# Altium schematic symbol library TPS1HB16.SchLib: 1 symbol
Pins are listed as number, name and electrical type; pins without a type are passive.

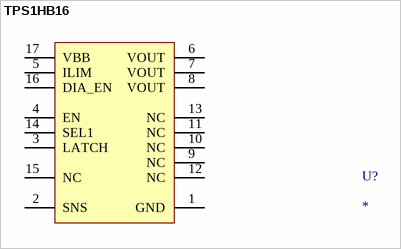
[diagram p0: symbol TPS1HB16]

## TPS1HB16
designator U?
pins: 1 GND, 2 SNS, 3 LATCH, 4 EN, 5 ILIM, 6 VOUT, 7 VOUT, 8 VOUT, 9 NC, 10 NC, 11 NC, 12 NC, 13 NC, 14 SEL1, 15 NC, 16 DIA_EN, 17 VBB